# Altium footprint library PCB-G-11.PcbLib: 23 footprints (part 1 of 2)
Each footprint in its own frame and in the unit in brackets; x right, y up, seen from the top. Pads: shape width x height; smd on the part's side, far side on the other; paste and mask are expansions set on the pad; w line width, h text height; cw(c..) or ccw(c..) is an arc to the next point about the centre after c.
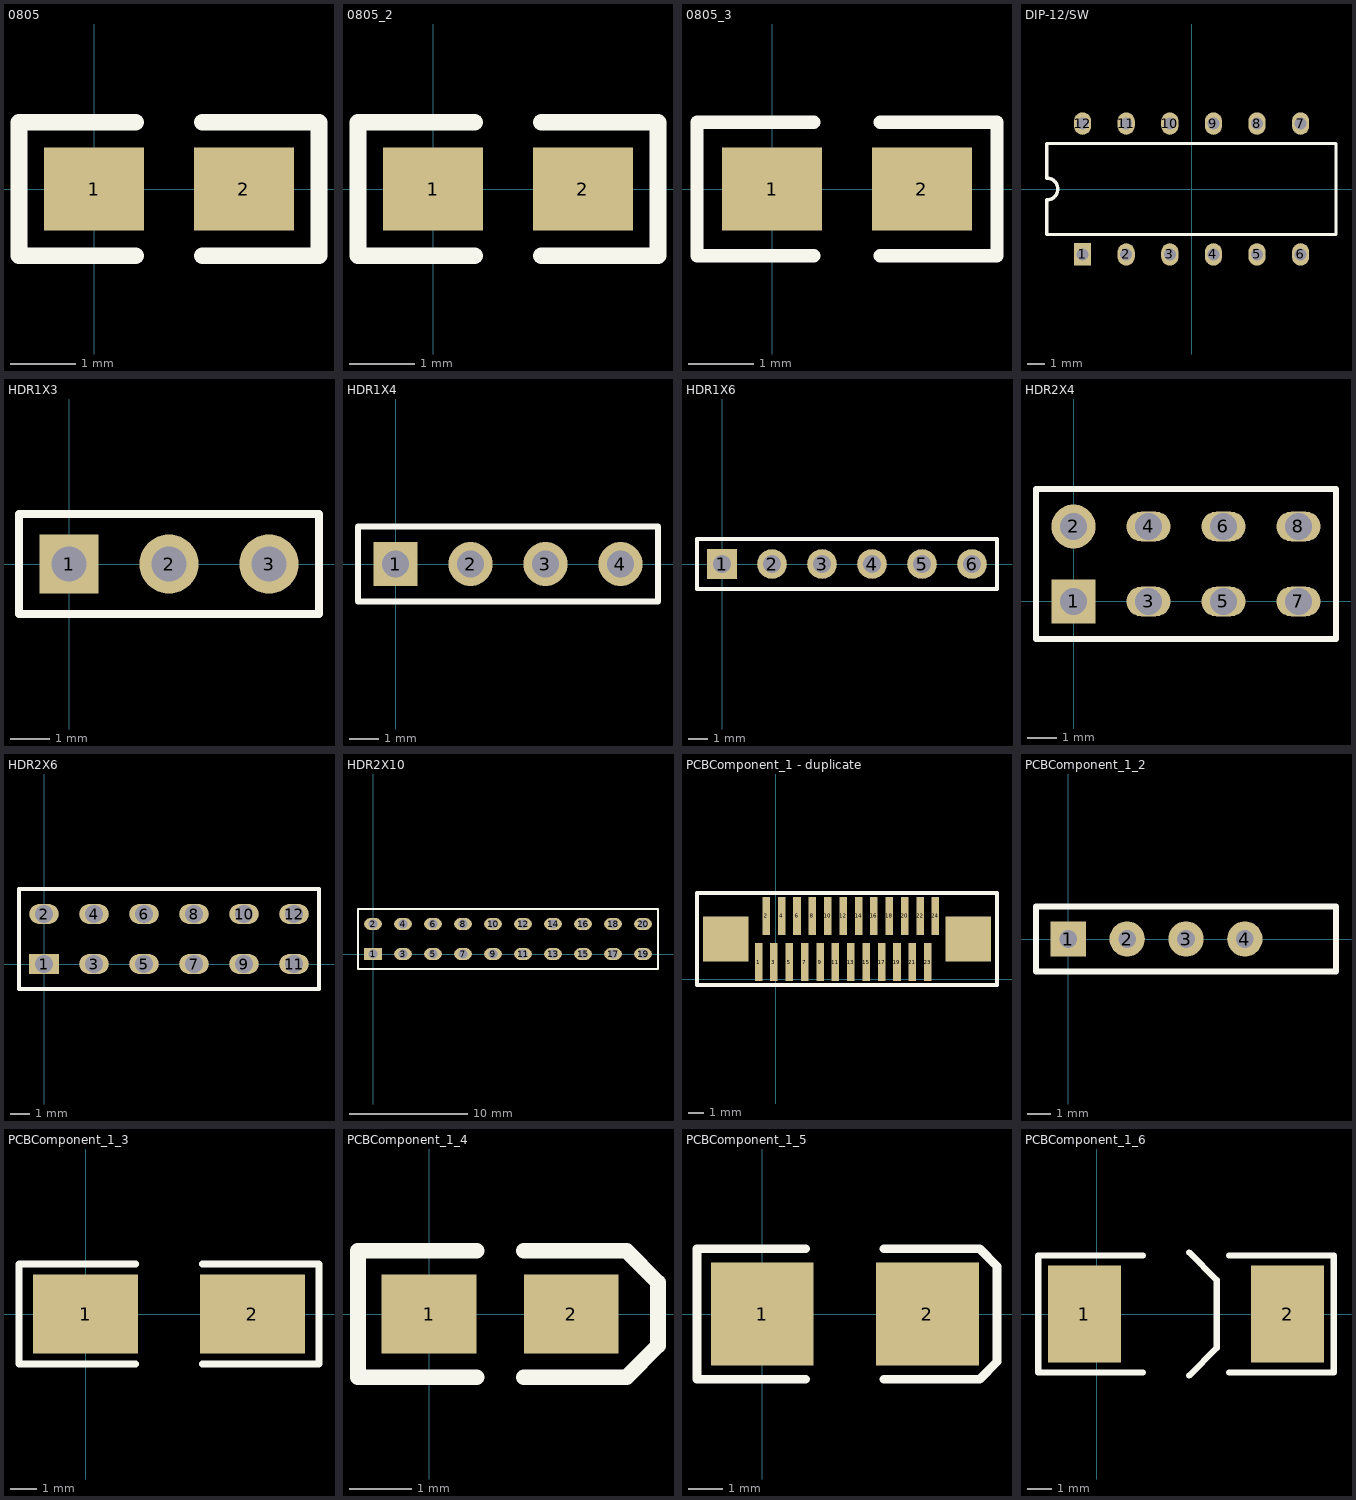
[diagram p0: the footprints below, top view; thin cyan lines are the x and y axes]

## 0805 [mil]
height 19.68
pads (2):
  rect 60x50 smd: 1(0,0) 2(90,0)
Top Overlay:
  lines w10: 25,-40 -45,-40 -45,40 25,40 ; 65,-40 135,-40 135,40 65,40

## 0805_2 [mil]
pads (2):
  rect 60x50 smd: 1(0,0) 2(90,0)
Top Overlay:
  lines w10: 25,-40 -45,-40 -45,40 25,40 ; 65,-40 135,-40 135,40 65,40

## 0805_3 [mil]
pads (2):
  rect 60x50 smd: 1(0,0) 2(90,0)
Top Overlay:
  lines w8: 25,-40 -45,-40 -45,40 25,40 ; 65,-40 135,-40 135,40 65,40

## DIP-12/SW [mm]
height 5.8
pads (12):
  rect 1x1.3 hole 0.7: 1(-6.35,-3.81)
  oval 1x1.3 hole 0.7: 2(-3.81,-3.81) 3(-1.27,-3.81) 4(1.27,-3.81) 5(3.81,-3.81) 6(6.35,-3.81) 7(6.35,3.81) 8(3.81,3.81) 9(1.27,3.81) 10(-1.27,3.81) 11(-3.81,3.81) 12(-6.35,3.81)
Top Overlay:
  lines w0.2: -8.43,-2.65 8.41,-2.65 8.41,2.65 -8.43,2.65 -8.43,0.635 cw(c-8.43,0) -8.43,-0.635 -8.43,-2.65

## HDR1X3 [mm]
pads (3):
  rect 1.5x1.5 hole 0.9: 1(0,0)
  round 1.5 hole 0.9: 2(2.54,0) 3(5.08,0)
Top Overlay:
  lines w0.2: -1.27,-1.27 6.35,-1.27 6.35,1.27 -1.27,1.27 -1.27,-1.27

## HDR1X4 [mm]
pads (4):
  rect 1.5x1.5 hole 0.9: 1(0,0)
  round 1.5 hole 0.9: 2(2.54,0) 3(5.08,0) 4(7.62,0)
Top Overlay:
  lines w0.2: -1.27,-1.27 -1.27,1.27 8.89,1.27 8.89,-1.27 -1.27,-1.27

## HDR1X6 [mm]
pads (6):
  rect 1.5x1.5 hole 0.9: 1(0,0)
  round 1.5 hole 0.9: 2(2.54,0) 3(5.08,0) 4(7.62,0) 5(10.16,0) 6(12.7,0)
Top Overlay:
  lines w0.2: -1.27,-1.27 -1.27,1.27 13.97,1.27 13.97,-1.27 -1.27,-1.27

## HDR2X4 [mm]
pads (8):
  rect 1.5x1.5 hole 0.9: 1(0,0)
  round 1.5 hole 0.9: 2(0,2.54)
  oval 1.5x1 hole 0.9: 3(2.54,0) 4(2.54,2.54) 5(5.08,0) 6(5.08,2.54) 7(7.62,0) 8(7.62,2.54)
Top Overlay:
  lines w0.2: -1.27,-1.27 8.89,-1.27 8.89,3.81 -1.27,3.81 -1.27,-1.27

## HDR2X6 [mm]
pads (12):
  rect 1.5x1 / inner rect 1x1 / far side rect 1x1 hole 0.9: 1(0,0)
  oval 1.5x1 / inner round 1 / far side round 1 hole 0.9: 2(0,2.54) 3(2.54,0) 4(2.54,2.54) 5(5.08,0) 6(5.08,2.54) 7(7.62,0) 8(7.62,2.54) 9(10.16,0) 10(10.16,2.54) 11(12.7,0) 12(12.7,2.54)
Top Overlay:
  lines w0.2: -1.27,-1.27 13.97,-1.27 13.97,3.81 -1.27,3.81 -1.27,-1.27

## HDR2X10 [mm]
pads (20):
  rect 1.5x1 hole 0.778: 1(0,0)
  oval 1.5x1 hole 0.778: 2(0,2.54) 3(2.54,0) 4(2.54,2.54) 5(5.08,0) 6(5.08,2.54) 7(7.62,0) 8(7.62,2.54) 9(10.16,0) 10(10.16,2.54) 11(12.7,0) 12(12.7,2.54) 13(15.24,0) 14(15.24,2.54) 15(17.78,0) 16(17.78,2.54) 17(20.32,0) 18(20.32,2.54) 19(22.86,0) 20(22.86,2.54)
Top Overlay:
  lines w0.2: -1.27,-1.27 0.635,-1.27 24.13,-1.27 24.13,3.81 0.635,3.81 -1.27,3.81 -1.27,-1.27

## PCBComponent_1 - duplicate [mm]
pads (26):
  rect 0.5x2.5 smd: 1(-1.143,1.143) 2(-0.635,4.191) 3(-0.127,1.143) 4(0.381,4.191) 5(0.889,1.143) 6(1.397,4.191) 7(1.905,1.143) 8(2.413,4.191) 9(2.921,1.143) 10(3.429,4.191) 11(3.937,1.143) 12(4.445,4.191) 13(4.953,1.143) 14(5.461,4.191) 15(5.969,1.143) 16(6.477,4.191) 17(6.985,1.143) 18(7.493,4.191) 19(8.001,1.143) 20(8.509,4.191) 21(9.017,1.143) 22(9.525,4.191) 23(10.033,1.143) 24(10.541,4.191)
  rect 3x3 smd: ""(-3.302,2.667) ""(12.7,2.667)
Top Overlay:
  lines w0.254: -5.207,-0.381 -5.207,5.715 14.605,5.715 14.605,4.223 14.605,-0.381 -5.207,-0.381

## PCBComponent_1_2 [mil]
pads (4):
  rect 60x60 hole 30: 1(0,0)
  round 60 hole 30: 2(100,0) 3(200,0) 4(300,0)
Top Overlay:
  lines w10: -55,-55 -55,55 455,55 455,-55 -55,-55

## PCBComponent_1_3 [mm]
pads (2):
  rect 4x3 smd: 1(0,0) 2(6.35,0)
Top Overlay:
  lines w0.254: 1.905,-1.905 -2.54,-1.905 -2.54,1.905 1.905,1.905 ; 4.445,-1.905 8.89,-1.905 8.89,1.905 4.445,1.905

## PCBComponent_1_4 [mil]
pads (2):
  rect 60x50 smd: 1(0,0) 2(90,0)
Top Overlay:
  lines w10: 30,-40 -45,-40 -45,-20 -45,20 -45,40 30,40 ; 60,-40 125,-40 145,-20 145,20 125,40 60,40

## PCBComponent_1_5 [mm]
pads (2):
  rect 3x3 smd: 1(0,0) 2(4.826,0)
Top Overlay:
  lines w0.254: 1.27,-1.905 -1.905,-1.905 -1.905,1.905 1.27,1.905 ; 3.556,-1.905 6.35,-1.905 6.858,-1.397 6.858,1.397 6.35,1.905 3.556,1.905

## PCBComponent_1_6 [mm]
pads (2):
  rect 3x4 smd: 1(-0.508,0) 2(7.874,0)
Top Overlay:
  lines w0.254: 1.905,-2.413 -2.413,-2.413 -2.413,2.413 1.905,2.413 ; 3.81,-2.54 4.953,-1.397 4.953,1.397 3.81,2.54 ; 5.461,-2.413 9.779,-2.413 9.779,2.413 5.461,2.413
3D body: height 2.54, standoff 0.03, extent 0,-2.032 7.62,2.032